# EAGLE library part SPECTROMETER-AS72651 (library FlashPCB_Sensors)
AS72651 - Smart 18-Channel VIS to NIR Spectral_ ID 3-Sensor Chipset with Electronic Shutter Technical Specifications: Wavelength: 410nm to 940nm with FWHM of 20nm Requires use of firmware loaded into serial flash via UART Component Search: AS72651-BLGT <https://www.flashpcb.com/components> Datasheet: AS7265x Smart 18-Channel VIS to NIR Spectral_ ID 3-Sensor Chipset with Electronic Shutter <https://ams.com/documents/20143/36005/AS7265x_DS000612_1-00.pdf>
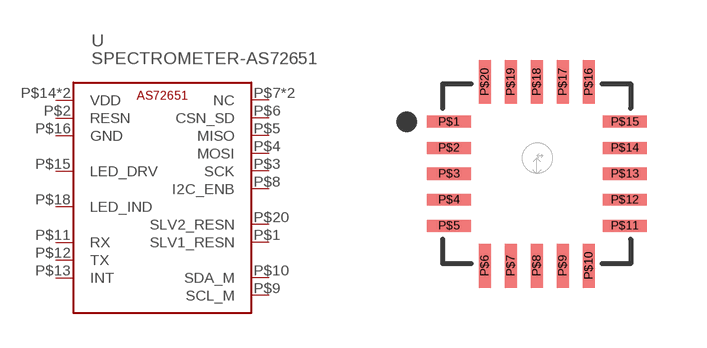
[diagram p22: symbol with the pads of 20-LGA-AS7XXX; footprint 20-LGA-AS7XXX]

Designator prefix U

## SPECTROMETER-AS72651  [20-LGA-AS7XXX]
P$1  SLV1_RESN
P$2  RESN
P$3  SCK
P$4  MOSI
P$5  MISO
P$6  CSN_SD
P$7  NC  nc
P$8  I2C_ENB
P$9  SCL_M
P$10  SDA_M
P$11  RX
P$12  TX
P$13  INT
P$14  VDD  pwr
P$15  LED_DRV
P$16  GND  pwr
P$17  VDD  pwr
P$18  LED_IND
P$19  NC  nc
P$20  SLV2_RESN

## Footprint 20-LGA-AS7XXX (pad centres in mm)
smd 1.1 x 0.3: P$1 -2.2,1.3; P$2 -2.2,0.65; P$3 -2.2,0; P$4 -2.2,-0.65; P$5 -2.2,-1.3; P$11 2.2,-1.3; P$12 2.2,-0.65; P$13 2.2,0; P$14 2.2,0.65; P$15 2.2,1.3
smd 0.3 x 1.1: P$6 -1.3,-2.3; P$7 -0.65,-2.3; P$8 0,-2.3; P$9 0.65,-2.3; P$10 1.3,-2.3; P$16 1.3,2.3; P$17 0.65,2.3; P$18 0,2.3; P$19 -0.65,2.3; P$20 -1.3,2.3